# EAGLE library part BQ24026 (library RobThePyro)
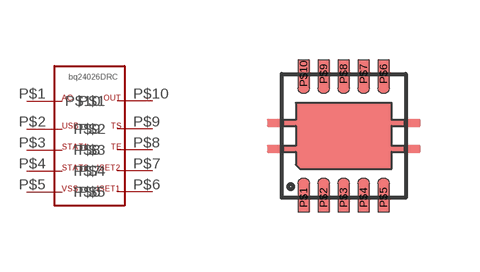
[diagram p2: symbol with the pads of SON-10; footprint SON-10]

Designator prefix -

## BQ24026  [SON-10]
P$1  P$1
P$2  P$2
P$3  P$3
P$4  P$4
P$5  P$5
P$6  P$6
P$7  P$7
P$8  P$8
P$9  P$9
P$10  P$10

## Footprint SON-10 (pad centres in mm)
smd 0.28 x 0.71: P$1 -1,-1.55; P$2 -0.5,-1.55; P$3 0,-1.55; P$4 0.5,-1.55; P$5 1,-1.55; P$6 1,1.55; P$7 0.5,1.55; P$8 0,1.55; P$9 -0.5,1.55; P$10 -1,1.55